# EAGLE library part EG1313 (library nerd100)
EG1313: SLIDE SWITCH VENDOR: E-SWITCH PIN: 4 LEAD: THROUGH HOLE CIRCUIT: 1 CONTACT: 3 + 1COMMON
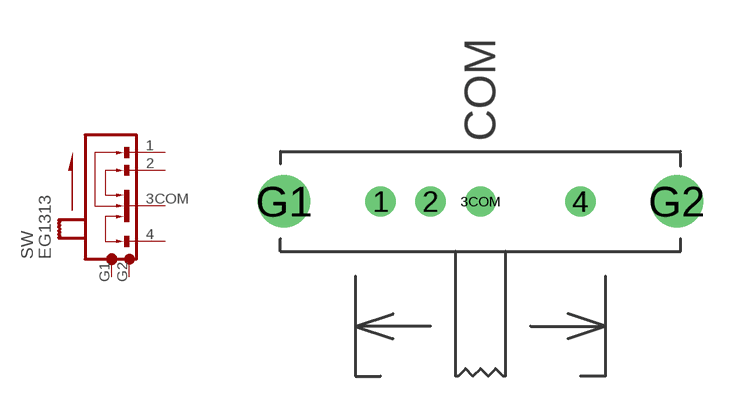
[diagram p3: symbol with the pads of EG1313; footprint EG1313]

Designator prefix SW

## EG1313  [EG1313]
1  P$1  pas
2  P$2  pas
3COM  P$3  pas
4  P$4  pas
G1  P$5  pas
G2  P$6  pas

## Footprint EG1313 (pad centres in mm)
drill 0.7 round: 1 -4,0; 2 -2,0; 3COM 0,0; 4 4,0
drill 1.4 round: G1 -7.85,0; G2 7.85,0